# EAGLE library part SA*-C167CR-LM (library micro-siemens)
16bit Microcontroller
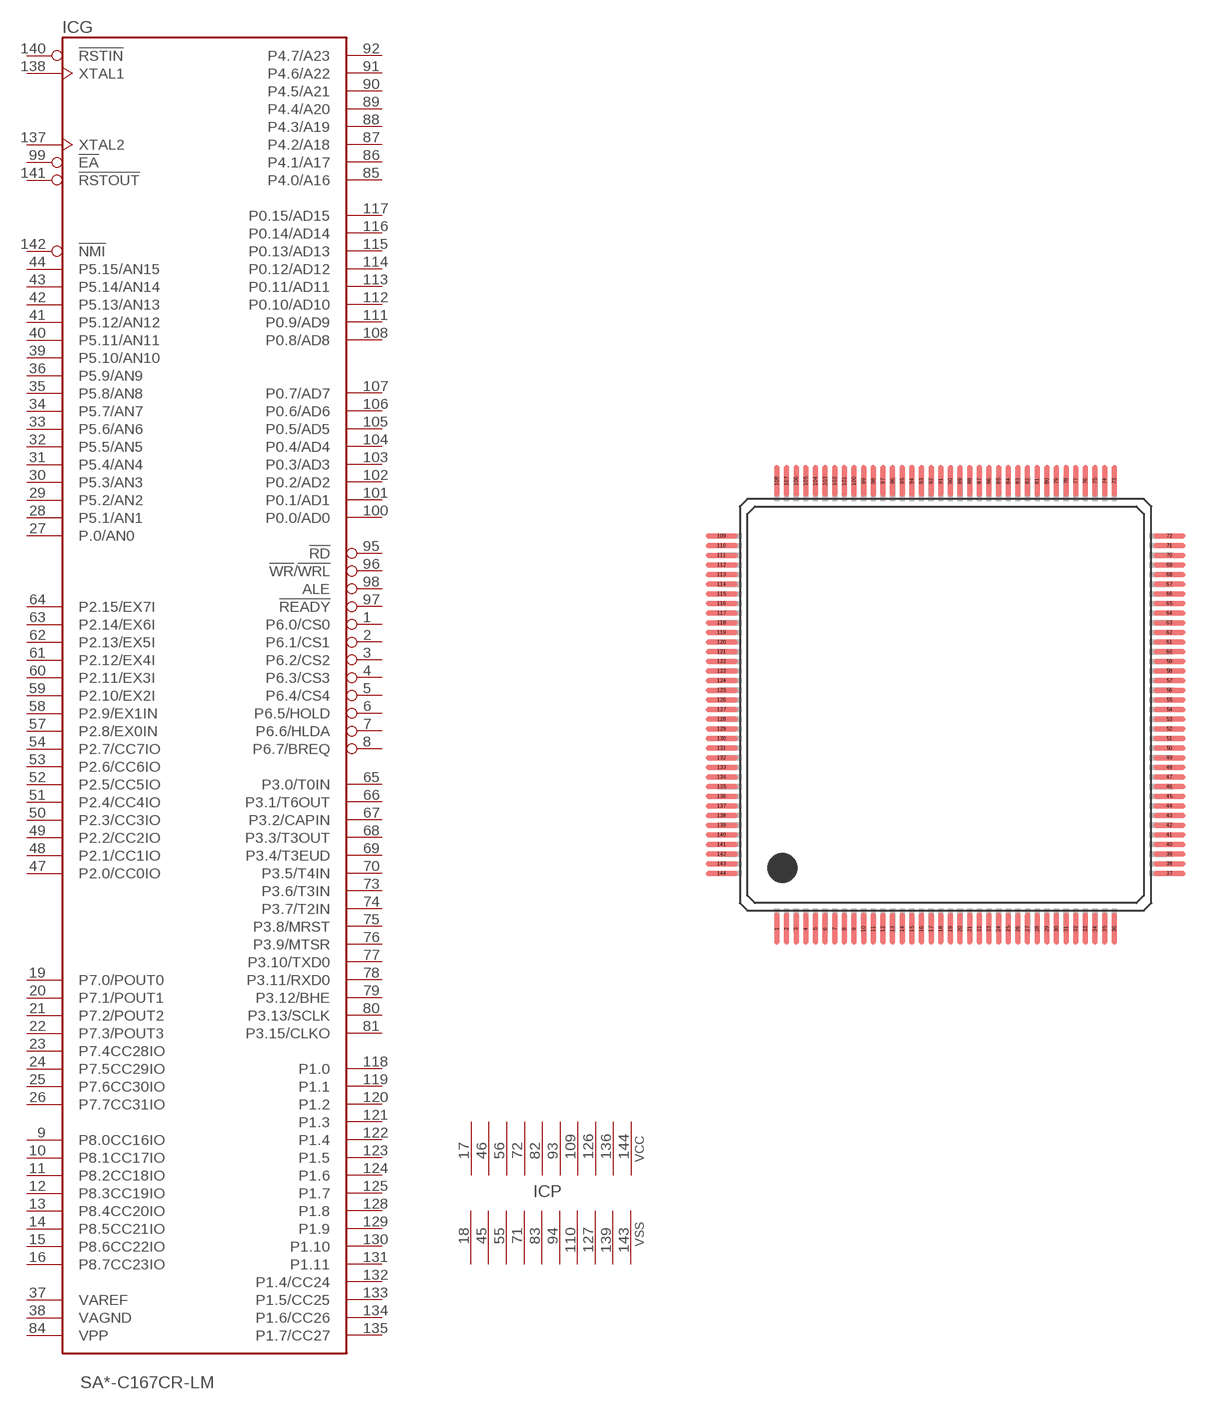
[diagram p69: symbol with the pads of MQFP144-RND; footprint MQFP144-RND]

Designator prefix IC; gates G=C167-1-1 P=10VCCVSS-1

## SAB-C167CR-LM (OC_FARNELL: unknown; OC_NEWARK: unknown), SAF-C167CR-LM (OC_FARNELL: unknown; OC_NEWARK: unknown), SAK-C167CR-LM (MPN: SAK-C167CR-LM HA; OC_FARNELL: 1220083; OC_NEWARK: 24M7191)  [MQFP144-RND]
1  G:P6.0/CS0
2  G:P6.1/CS1
3  G:P6.2/CS2
4  G:P6.3/CS3
5  G:P6.4/CS4
6  G:P6.5/HOLD
7  G:P6.6/HLDA
8  G:P6.7/BREQ
9  G:P8.0CC16IO
10  G:P8.1CC17IO
11  G:P8.2CC18IO
12  G:P8.3CC19IO
13  G:P8.4CC20IO
14  G:P8.5CC21IO
15  G:P8.6CC22IO
16  G:P8.7CC23IO
17  P:VCC  pwr
18  P:VSS  pwr
19  G:P7.0/POUT0
20  G:P7.1/POUT1
21  G:P7.2/POUT2
22  G:P7.3/POUT3
23  G:P7.4CC28IO
24  G:P7.5CC29IO
25  G:P7.6CC30IO
26  G:P7.7CC31IO
27  G:P.0/AN0  in
28  G:P5.1/AN1  in
29  G:P5.2/AN2  in
30  G:P5.3/AN3  in
31  G:P5.4/AN4  in
32  G:P5.5/AN5  in
33  G:P5.6/AN6  in
34  G:P5.7/AN7  in
35  G:P5.8/AN8  in
36  G:P5.9/AN9  in
37  G:VAREF  pas
38  G:VAGND  pas
39  G:P5.10/AN10  in
40  G:P5.11/AN11  in
41  G:P5.12/AN12  in
42  G:P5.13/AN13  in
43  G:P5.14/AN14  in
44  G:P5.15/AN15  in
45  P:VSS  pwr
46  P:VCC  pwr
47  G:P2.0/CC0IO
48  G:P2.1/CC1IO
49  G:P2.2/CC2IO
50  G:P2.3/CC3IO
51  G:P2.4/CC4IO
52  G:P2.5/CC5IO
53  G:P2.6/CC6IO
54  G:P2.7/CC7IO
55  P:VSS  pwr
56  P:VCC  pwr
57  G:P2.8/EX0IN
58  G:P2.9/EX1IN
59  G:P2.10/EX2I
60  G:P2.11/EX3I
61  G:P2.12/EX4I
62  G:P2.13/EX5I
63  G:P2.14/EX6I
64  G:P2.15/EX7I
65  G:P3.0/T0IN
66  G:P3.1/T6OUT
67  G:P3.2/CAPIN
68  G:P3.3/T3OUT
69  G:P3.4/T3EUD
70  G:P3.5/T4IN
71  P:VSS  pwr
72  P:VCC  pwr
73  G:P3.6/T3IN
74  G:P3.7/T2IN
75  G:P3.8/MRST
76  G:P3.9/MTSR
77  G:P3.10/TXD0
78  G:P3.11/RXD0
79  G:P3.12/BHE
80  G:P3.13/SCLK
81  G:P3.15/CLKO
82  P:VCC  pwr
83  P:VSS  pwr
84  G:VPP  pas
85  G:P4.0/A16
86  G:P4.1/A17
87  G:P4.2/A18
88  G:P4.3/A19
89  G:P4.4/A20
90  G:P4.5/A21
91  G:P4.6/A22
92  G:P4.7/A23
93  P:VCC  pwr
94  P:VSS  pwr
95  G:!RD  out
96  G:!WR!/!WRL  out
97  G:!READY  in
98  G:ALE  out
99  G:!EA  in
100  G:P0.0/AD0
101  G:P0.1/AD1
102  G:P0.2/AD2
103  G:P0.3/AD3
104  G:P0.4/AD4
105  G:P0.5/AD5
106  G:P0.6/AD6
107  G:P0.7/AD7
108  G:P0.8/AD8
109  P:VCC  pwr
110  P:VSS  pwr
111  G:P0.9/AD9
112  G:P0.10/AD10
113  G:P0.11/AD11
114  G:P0.12/AD12
115  G:P0.13/AD13
116  G:P0.14/AD14
117  G:P0.15/AD15
118  G:P1.0
119  G:P1.1
120  G:P1.2
121  G:P1.3
122  G:P1.4
123  G:P1.5
124  G:P1.6
125  G:P1.7
126  P:VCC  pwr
127  P:VSS  pwr
128  G:P1.8
129  G:P1.9
130  G:P1.10
131  G:P1.11
132  G:P1.4/CC24
133  G:P1.5/CC25
134  G:P1.6/CC26
135  G:P1.7/CC27
136  P:VCC  pwr
137  G:XTAL2  out
138  G:XTAL1  in
139  P:VSS  pwr
140  G:!RSTIN  in
141  G:!RSTOUT  out
142  G:!NMI  in
143  P:VSS  pwr
144  P:VCC  pwr

## Footprint MQFP144-RND (pad centres in mm)
Metric Quad Flat Pack with rounded pads
smd 0.35 x 2.2: 1 -11.375,-15.1; 2 -10.725,-15.1; 3 -10.075,-15.1; 4 -9.425,-15.1; 5 -8.775,-15.1; 6 -8.125,-15.1; 7 -7.475,-15.1; 8 -6.825,-15.1; 9 -6.175,-15.1; 10 -5.525,-15.1; 11 -4.875,-15.1; 12 -4.225,-15.1; 13 -3.575,-15.1; 14 -2.925,-15.1; 15 -2.275,-15.1; 16 -1.625,-15.1; 17 -0.975,-15.1; 18 -0.325,-15.1; 19 0.325,-15.1; 20 0.975,-15.1; 21 1.625,-15.1; 22 2.275,-15.1; 23 2.925,-15.1; 24 3.575,-15.1; 25 4.225,-15.1; 26 4.875,-15.1; 27 5.525,-15.1; 28 6.175,-15.1; 29 6.825,-15.1; 30 7.475,-15.1; 31 8.125,-15.1; 32 8.775,-15.1; 33 9.425,-15.1; 34 10.075,-15.1; 35 10.725,-15.1; 36 11.375,-15.1; 73 11.375,15.1; 74 10.725,15.1; 75 10.075,15.1; 76 9.425,15.1; 77 8.775,15.1; 78 8.125,15.1; 79 7.475,15.1; 80 6.825,15.1; 81 6.175,15.1; 82 5.525,15.1; 83 4.875,15.1; 84 4.225,15.1; 85 3.575,15.1; 86 2.925,15.1; 87 2.275,15.1; 88 1.625,15.1; 89 0.975,15.1; 90 0.325,15.1; 91 -0.325,15.1; 92 -0.975,15.1; 93 -1.625,15.1; 94 -2.275,15.1; 95 -2.925,15.1; 96 -3.575,15.1; 97 -4.225,15.1; 98 -4.875,15.1; 99 -5.525,15.1; 100 -6.175,15.1; 101 -6.825,15.1; 102 -7.475,15.1; 103 -8.125,15.1; 104 -8.775,15.1; 105 -9.425,15.1; 106 -10.075,15.1; 107 -10.725,15.1; 108 -11.375,15.1
smd 2.2 x 0.35: 37 15.1,-11.375; 38 15.1,-10.725; 39 15.1,-10.075; 40 15.1,-9.425; 41 15.1,-8.775; 42 15.1,-8.125; 43 15.1,-7.475; 44 15.1,-6.825; 45 15.1,-6.175; 46 15.1,-5.525; 47 15.1,-4.875; 48 15.1,-4.225; 49 15.1,-3.575; 50 15.1,-2.925; 51 15.1,-2.275; 52 15.1,-1.625; 53 15.1,-0.975; 54 15.1,-0.325; 55 15.1,0.325; 56 15.1,0.975; 57 15.1,1.625; 58 15.1,2.275; 59 15.1,2.925; 60 15.1,3.575; 61 15.1,4.225; 62 15.1,4.875; 63 15.1,5.525; 64 15.1,6.175; 65 15.1,6.825; 66 15.1,7.475; 67 15.1,8.125; 68 15.1,8.775; 69 15.1,9.425; 70 15.1,10.075; 71 15.1,10.725; 72 15.1,11.375; 109 -15.1,11.375; 110 -15.1,10.725; 111 -15.1,10.075; 112 -15.1,9.425; 113 -15.1,8.775; 114 -15.1,8.125; 115 -15.1,7.475; 116 -15.1,6.825; 117 -15.1,6.175; 118 -15.1,5.525; 119 -15.1,4.875; 120 -15.1,4.225; 121 -15.1,3.575; 122 -15.1,2.925; 123 -15.1,2.275; 124 -15.1,1.625; 125 -15.1,0.975; 126 -15.1,0.325; 127 -15.1,-0.325; 128 -15.1,-0.975; 129 -15.1,-1.625; 130 -15.1,-2.275; 131 -15.1,-2.925; 132 -15.1,-3.575; 133 -15.1,-4.225; 134 -15.1,-4.875; 135 -15.1,-5.525; 136 -15.1,-6.175; 137 -15.1,-6.825; 138 -15.1,-7.475; 139 -15.1,-8.125; 140 -15.1,-8.775; 141 -15.1,-9.425; 142 -15.1,-10.075; 143 -15.1,-10.725; 144 -15.1,-11.375